# Altium footprint library Nguyen Quang Minh.PcbLib: 1 footprints
Each footprint in its own frame and in the unit in brackets; x right, y up, seen from the top. Pads: shape width x height; smd on the part's side, far side on the other; paste and mask are expansions set on the pad; w line width, h text height; cw(c..) or ccw(c..) is an arc to the next point about the centre after c.
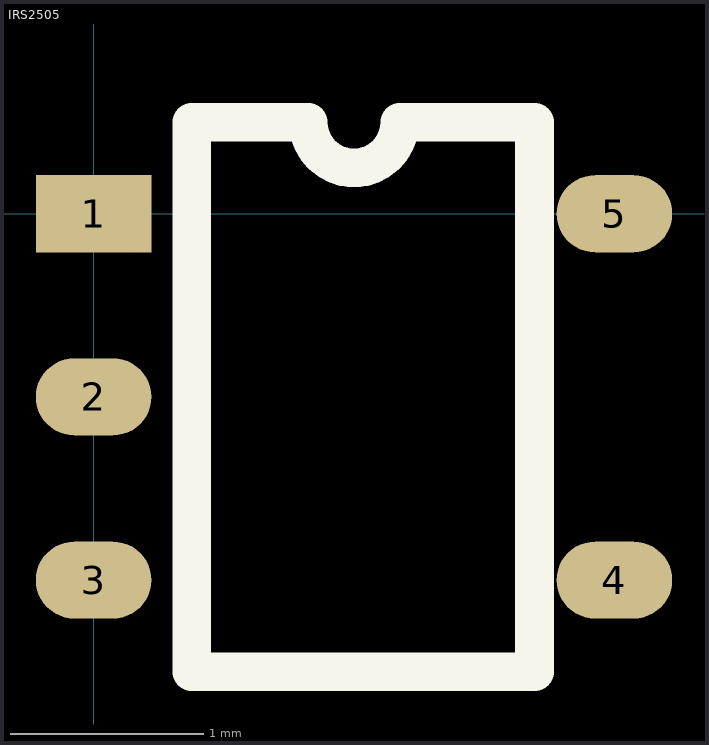
[diagram p0: the footprint, top view; thin cyan lines are the x and y axes]

## IRS2505 [mm]
pads (5):
  rect 0.6x0.4 smd: 1(0,0)
  oval 0.6x0.4 smd: 2(0,-0.95) 3(0,-1.9) 4(2.7,-1.9) 5(2.7,0)
Top Overlay:
  lines w0.2: 0.508,-2.375 0.508,0.475 1.112,0.475 ccw(c1.35,0.475) 1.587,0.475 2.286,0.475 2.286,-2.375 0.508,-2.375